# EAGLE library part 503500-0991 (library 503500-0991)
Conn SD Card SKT 9 POS 2.5mm Solder RA SMD Embossed T/R 0.5A/Contact
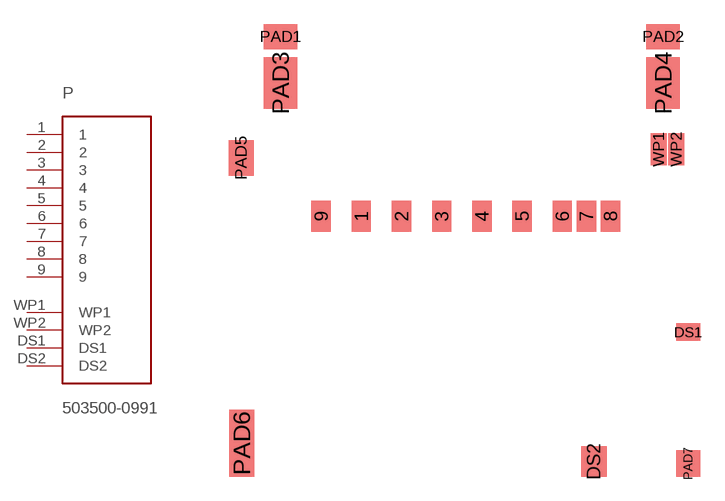
[diagram p0: symbol with the pads of MOLEX_503500-0991; footprint MOLEX_503500-0991]

Designator prefix P

## 503500-0991 (Availability: Good; Description: Conn SD Card SKT 9 POS 2.5mm Solder RA SMD Embossed T/R 0.5A/Contact; MF: Molex; MP: 503500-0991; Package: FakePackage u; Price: 3.04 USD)  [MOLEX_503500-0991]
1  1  pas
2  2  pas
3  3  pas
4  4  pas
5  5  pas
6  6  pas
7  7  pas
8  8  pas
9  9  pas
DS1  DS1  in
DS2  DS2  in
WP1  WP1  in
WP2  WP2  in

## Footprint MOLEX_503500-0991 (pad centres in mm)
smd 1.2 x 1.95: 1 -6.249,0; 2 -3.749,0; 3 -1.249,0; 4 1.251,0; 5 3.751,0; 6 6.251,0; 7 7.751,0; 8 9.251,0; 9 -8.749,0
smd 1.5 x 1.1: DS1 14.094,-7.208
smd 1.6 x 1.87: DS2 8.223,-15.258
smd 2.1 x 1.55: PAD1 -11.274,11.176; PAD2 12.525,11.177
smd 2.1 x 3.2: PAD3 -11.275,8.301; PAD4 12.525,8.301
smd 1.55 x 2.2: PAD5 -13.729,3.625
smd 1.55 x 4.17: PAD6 -13.68,-14.113
smd 1.5 x 1.65: PAD7 14.094,-15.373
smd 1 x 2: WP1 12.246,4.165; WP2 13.346,4.165